# Altium footprint library 电源芯片.PcbLib: 16 footprints
Each footprint in its own frame and in the unit in brackets; x right, y up, seen from the top. Pads: shape width x height; smd on the part's side, far side on the other; paste and mask are expansions set on the pad; w line width, h text height; cw(c..) or ccw(c..) is an arc to the next point about the centre after c.
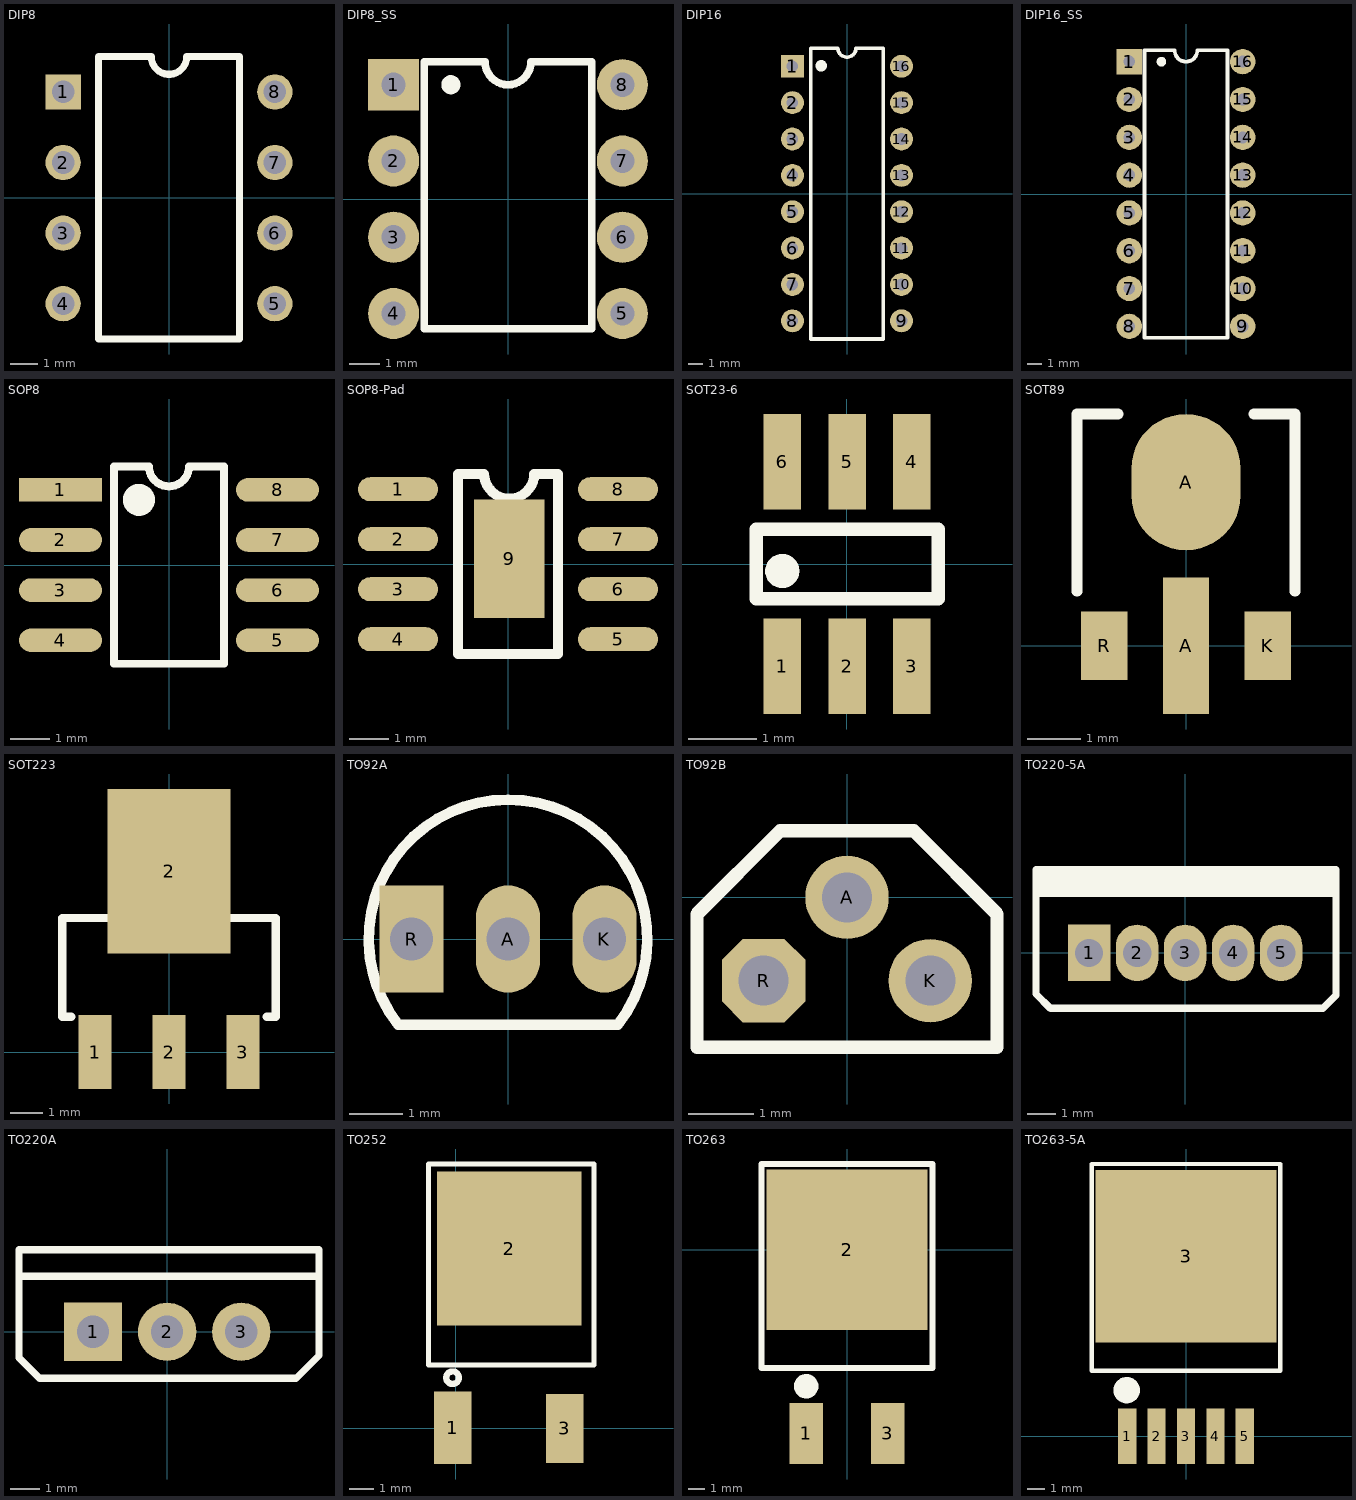
[diagram p0: the footprints below, top view; thin cyan lines are the x and y axes]

## DIP8 [mil]
pads (8):
  rect 50x50 hole 32: 1(-150,150)
  round 50 hole 32: 2(-150,50) 3(-150,-50) 4(-150,-150) 5(150,-150) 6(150,-50) 7(150,50) 8(150,150)
Top Overlay:
  lines w10: -100,-200 -100,200 -25,200 ccw(c0,200) 25,200 100,200 100,-200 -100,-200
3D body "DIP8.STEP": height 200, standoff -137.8, extent -154.92,-209.96 154.92,219.96

## DIP8_SS [mm] "DIP8-SMD Socket"
pads (8):
  rect 1.7x1.7 hole 0.8: 1(-3.81,3.81)
  round 1.7 hole 0.8: 2(-3.81,1.27) 3(-3.81,-1.27) 4(-3.81,-3.81) 5(3.81,-3.81) 6(3.81,-1.27) 7(3.81,1.27) 8(3.81,3.81)
Top Overlay:
  circle w0.381: c-1.905,3.81 r0.127
  lines w0.254: -2.794,-4.318 -2.794,4.572 -0.762,4.572 ccw(c0,4.572) 0,3.81 ccw(c0,4.572) 0.762,4.572 2.794,4.572 2.794,-4.318 -2.794,-4.318
3D body "DIP8-300.STEP": height 7.7, standoff 0, extent -3.925,-4.7 3.925,4.7
3D body "DIP-MH8-300.STEP": height 4.95, standoff -2.95, extent -5,-5.19 5,5.19

## DIP16 [mm]
pads (16):
  rect 1.6x1.6 hole 0.813: 1(-3.814,8.89)
  round 1.6 hole 0.813: 2(-3.814,6.35) 3(-3.814,3.81) 4(-3.814,1.27) 5(-3.814,-1.27) 6(-3.814,-3.81) 7(-3.814,-6.35) 8(-3.814,-8.89) 9(3.814,-8.89) 10(3.806,-6.35) 11(3.806,-3.81) 12(3.806,-1.27) 13(3.806,1.27) 14(3.806,3.81) 15(3.806,6.35) 16(3.806,8.89)
Top Overlay:
  circle w0.5: c-1.8,8.925 r0.15
  lines w0.254: -2.544,-10.16 2.536,-10.16 2.536,10.16 0.631,10.16 cw(c-0.004,10.16) -0.639,10.16 -2.544,10.16 -2.544,-10.16
3D body "DIP16.STEP": height 5.1, standoff -3.3, extent -3.933,-9.873 3.937,10.127

## DIP16_SS [mm] "DIP16-SMD Socket"
pads (16):
  rect 1.7x1.7 hole 0.8: 1(-3.81,8.89)
  round 1.7 hole 0.8: 2(-3.81,6.35) 3(-3.81,3.81) 4(-3.81,1.27) 5(-3.81,-1.27) 6(-3.81,-3.81) 7(-3.81,-6.35) 8(-3.81,-8.89) 9(3.81,-8.89) 10(3.81,-6.35) 11(3.81,-3.81) 12(3.81,-1.27) 13(3.81,1.27) 14(3.81,3.81) 15(3.81,6.35) 16(3.81,8.89)
Top Overlay:
  circle w0.381: c-1.651,8.89 r0.127
  lines w0.254: -2.794,-9.652 2.794,-9.652 2.794,9.652 0.762,9.652 cw(c0,9.652) 0,8.89 cw(c0,9.652) -0.762,9.652 -2.794,9.652 -2.794,-9.652
3D body "DIP16-300.STEP": height 7.5, standoff -0.1, extent -4.02,-9.65 4.02,9.65
3D body "DIP-MH16-300.STEP": height 5.25, standoff -2.95, extent -4.981,-10.25 5,10.25

## SOP8 [mm]
pads (8):
  rect 2.1x0.6 smd: 1(-2.75,1.905)
  oval 2.1x0.6 smd: 2(-2.75,0.635) 3(-2.75,-0.635) 4(-2.75,-1.905) 5(2.75,-1.905) 6(2.75,-0.635) 7(2.75,0.635) 8(2.75,1.905)
Top Overlay:
  circle w0.5: c-0.762,1.651 r0.155
  lines w0.2: -1.397,2.5 -1.397,-2.5 1.397,-2.5 1.397,2.5
  lines w0.203: -1.397,2.5 -0.508,2.5 ccw(c0,2.5) 0,1.992 ccw(c0,2.5) 0.508,2.5 1.397,2.5
3D body "SOP8.STEP": height 1.9, standoff 0, extent -2.959,-2.54 3.047,2.46

## SOP8-Pad [mil]
pads (9):
  oval 80x24 smd: 1(-110,75) 2(-110,25) 3(-110,-25) 4(-110,-75) 5(110,-75) 6(110,-25) 7(110,25) 8(110,75)
  rect 70.87x118.11 smd: 9(1.24,5.45)
Top Overlay:
  lines w10: -50,-89.55 -50,90.45 -23.76,90.45 ccw(c1.24,90.45) 26.24,90.45 50,90.45 50,-89.55 -50,-89.55
3D body "SOP8.STEP": height 74.8, standoff 0.03, extent -116.98,-101.4 119.46,95.45

## SOT23-6 [mm]
pads (6):
  rect 0.55x1.4 smd: 1(-0.95,-1.5) 2(0,-1.5) 3(0.95,-1.5) 4(0.95,1.5) 5(0,1.5) 6(-0.95,1.5)
Top Overlay:
  circle w0.25: c-0.95,-0.103 r0.125
  lines w0.2: -1.331,-0.508 -1.331,0.508 1.336,0.508 1.336,-0.508 -1.331,-0.508
3D body "SOT23-6.STEP": height 1.15, standoff -0.03, extent -1.509,-1.379 1.491,1.427

## SOT89 [mil]
pads (4):
  rect 34x100 smd: A(0,0)
  oval 80x100 smd: A(0,120)
  rect 34x50 smd: K(60,0) R(-60,0)
Top Overlay:
  lines w8: -80,40 -80,170 -50,170 ; 50,170 80,170 80,40
3D body "SOT-89.STEP": height 59.45, standoff 0, extent -88.58,-12.99 88.59,156.3

## SOT223 [mil]
pads (4):
  rect 40x90 smd: 1(-90,0) 2(0,0) 3(90,0)
  rect 150x200 smd: 2(0,220)
Top Overlay:
  lines w10: -119,43 -130,43 -130,163 130,163 130,43 119,43
3D body "SOT223.STEP": height 64.96, standoff -0.74, extent -129.9,-30.12 126,246.12

## TO92A [mm]
pads (3):
  oval 1.2x2 hole 0.8: A(0,0) K(1.8,0)
  rect 1.2x2 hole 0.8: R(-1.8,0)
Top Overlay:
  lines w0.2: -2.049,-1.601 cw(c0,0) 2.049,-1.601 ; -1.99,-1.6 1.99,-1.6
3D body "5.STEP": height 6.58, standoff -4.02, extent -2.3,-1.314 2.3,2.286

## TO92B [mil]
pads (3):
  round 50 hole 30: A(0,0) K(50,-50)
  oct 50x50 hole 30: R(-50,-50)
Top Overlay:
  lines w8: -90,-90 90,-90 90,-10 40,40 -40,40 -90,-10 -90,-90
3D body "TO92.STEP": height 283.41, standoff -133.91, extent -90.55,-100 90.55,41.54

## TO220-5A [mm]
pads (5):
  rect 1.5x2 hole 1: 1(-3.4,0)
  oval 1.5x2 hole 1: 2(-1.7,0) 3(0,0) 4(1.7,0) 5(3.4,0)
Top Overlay:
  rectangle: -5.28,2.189 5.34,2.946
  lines w0.254: -5.28,2.102 5.34,2.102 ; -5.28,-1.454 -5.28,1.34 -5.28,2.946 5.34,2.946 5.34,1.432 5.34,-1.502 4.88,-1.962 -4.772,-1.962 -5.28,-1.454
3D body "19.STEP": height 17.5, standoff -4, extent -4.991,-1.742 5.109,2.758

## TO220A [mm] "220，3脚晶体管"
pads (3):
  rect 2x2 hole 1.1: 1(-2.54,0)
  round 2 hole 1.1: 2(0,0) 3(2.54,0)
Top Overlay:
  lines w0.254: -4.928,1.905 5.131,1.905 ; -5.08,-0.889 -5.08,2.819 5.207,2.819 5.207,-0.813 4.42,-1.6 -4.369,-1.6 -5.08,-0.889
3D body "4.STEP": height 18.5, standoff -4, extent -5.08,-1.453 5.22,2.977

## TO252 [mil] "252晶体管"
pads (3):
  rect 60x115 smd: 1(-4.55,0.23)
  rect 230x245 smd: 2(85,285.35)
  rect 60x110 smd: 3(173.45,-0.77)
Top Overlay:
  circle w10: c-5,80 r10
  lines w7.87: -42.95,100 220,100 220,147.56 220,420 -42.95,420 -42.95,147.56 -42.95,100
3D body "2.STEP": height 90.55, standoff 0, extent -40.91,4.58 215,375.42

## TO263 [mm]
pads (3):
  rect 2.1x3.8 smd: 1(-2.54,-11.45) 3(2.54,-11.45)
  rect 10x10 smd: 2(0,0)
Top Overlay:
  circle w0.762: c-2.54,-8.509 r0.381
  lines w0.381: -5.334,-7.366 -5.334,-5.588 -5.334,5.334 5.334,5.334 5.334,-5.588 5.334,-7.366 -5.334,-7.366
3D body "1.STEP": height 4.5, standoff 0, extent -4.92,-11.049 5.08,3.881

## TO263-5A [mm] "263，5脚晶体管"
pads (6):
  rect 1.05x3.2 smd: 1(-3.4,0) 2(-1.7,0) 3(0,0) 4(1.7,0) 5(3.4,0)
  rect 10.45x10 smd: 3(0,10.414)
Top Overlay:
  circle w0.762: c-3.429,2.667 r0.381
  lines w0.254: -5.461,3.787 -5.461,6.037 -5.461,15.748 5.461,15.748 5.461,6.037 5.461,3.787 -5.461,3.787
3D body "6.STEP": height 4.5, standoff 0, extent -5.047,0.448 4.953,13.776